# EAGLE library part TPS7A470 (library regulator-jqi)
Ultra-low noise LDO regulator, variable programmable output, 36V
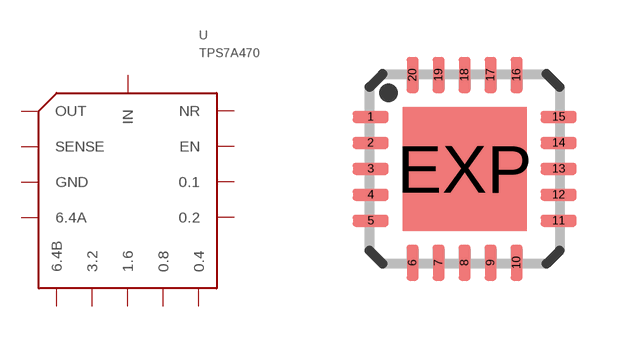
[diagram p3: symbol with the pads of S-PVQFN-N20; footprint S-PVQFN-N20]

Designator prefix U

## TPS7A470  [S-PVQFN-N20]
1  OUT
2  GND
3  SENSE
4  6.4A
5  6.4B
6  3.2
7  GND
8  1.6
9  0.8
10  0.4
11  0.2
12  0.1
13  EN
14  NR
15  IN
16  IN
17  GND
18  GND
19  GND
20  OUT
EXP  GND

## Footprint S-PVQFN-N20 (pad centres in mm)
smd 0.9 x 0.3: 1 -2.35,1.3; 2 -2.35,0.65; 3 -2.35,0; 4 -2.35,-0.65; 5 -2.35,-1.3; 11 2.35,-1.3; 12 2.35,-0.65; 13 2.35,0; 14 2.35,0.65; 15 2.35,1.3
smd 0.3 x 0.9: 6 -1.3,-2.35; 7 -0.65,-2.35; 8 0,-2.35; 9 0.65,-2.35; 10 1.3,-2.35; 16 1.3,2.35; 17 0.65,2.35; 18 0,2.35; 19 -0.65,2.35; 20 -1.3,2.35
smd 3.1 x 3.1: EXP 0,0